# Altium footprint library INF-SOT89_N.PcbLib: 1 footprints
Each footprint in its own frame and in the unit in brackets; x right, y up, seen from the top. Pads: shape width x height; smd on the part's side, far side on the other; paste and mask are expansions set on the pad; w line width, h text height; cw(c..) or ccw(c..) is an arc to the next point about the centre after c.
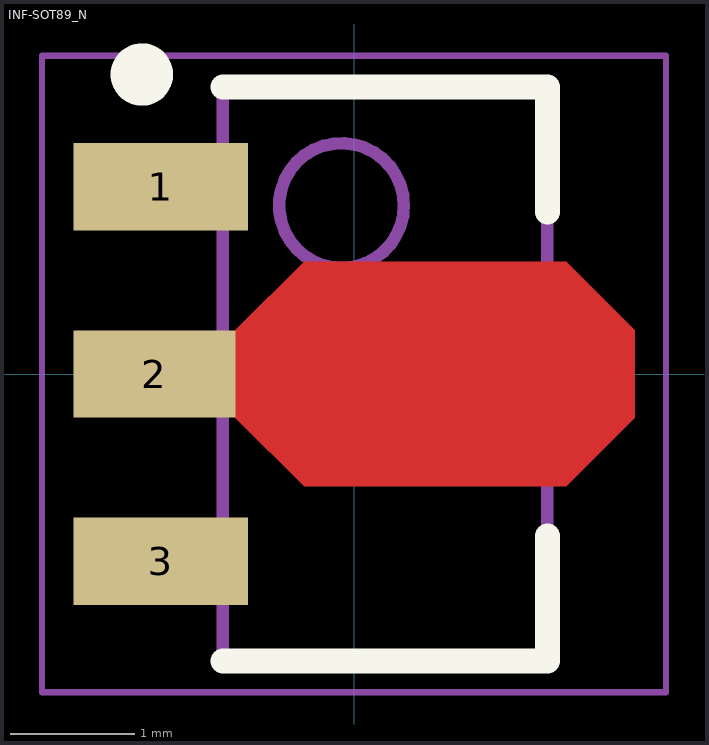
[diagram p0: the footprint, top view; thin cyan lines are the x and y axes]

## INF-SOT89_N [mm] "SOT89, 3-Leads, Body 4.5x2.5 mm, Pitch 1.5 mm, IPC Medium Density"
height 1.6
pads (3):
  rect 1.4x0.7 smd: 1(-1.55,1.5) 3(-1.55,-1.5)
  rect 1.3x0.7 smd: 2(-1.6,0)
Top Layer:
  region: -0.95,0.35 -0.4,0.9 1.7,0.9 2.25,0.35 2.25,-0.35 1.7,-0.9 -0.4,-0.9 -0.95,-0.35
Top Overlay:
  circle w0.25: c-1.7,2.4 r0.125
  lines w0.2: -1.05,-2.3 1.55,-2.3 1.55,-1.3 ; -1.05,2.3 1.55,2.3 1.55,1.3
Mechanical 13:
  circle w0.1: c-0.1,1.35 r0.5
  lines w0.1: -1.05,-2.3 -1.05,2.3 1.55,2.3 1.55,-2.3 -1.05,-2.3
Mechanical 15:
  lines w0.05: -2.5,-2.55 -2.5,2.55 2.5,2.55 2.5,-2.55 -2.5,-2.55
  lines w0.1: -0.25,0 0.75,0 ; 0.25,-0.5 0.25,0.5
3D body: height 1.6, standoff 0, extent -1.05,-2.3 1.55,2.3